# EAGLE library part K-HEADER-FEMALE-1X16- (library elpp-v1.1)
FEMALE HEADER
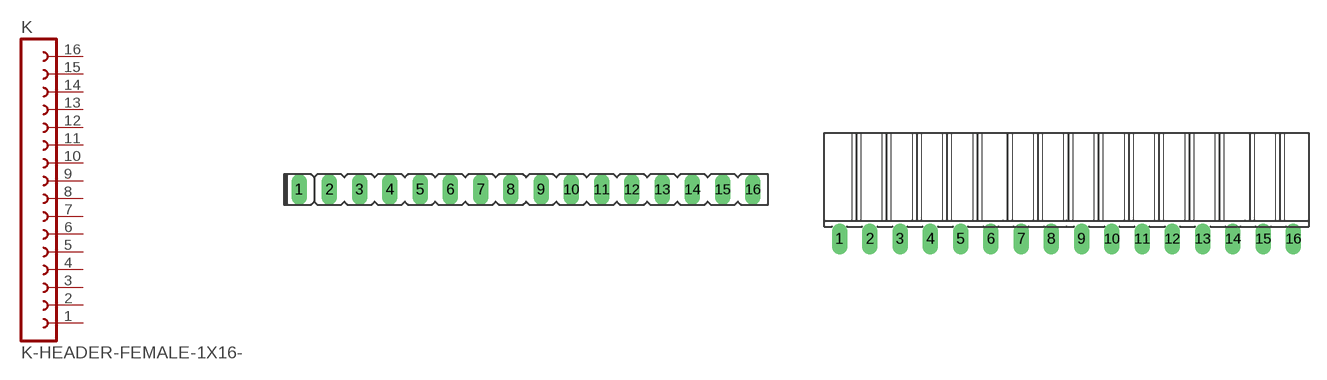
[diagram p28: symbol with the pads of EPP-SIL-F-16-WAY; footprints EPP-SIL-F-16-WAY, EPP-SIL-F-16-WAY-90DEG]

Designator prefix K

## K-HEADER-FEMALE-1X16-V (FARNELL: 9728856; RS: unknown)  [EPP-SIL-F-16-WAY]
1  1  pas
2  2  pas
3  3  pas
4  4  pas
5  5  pas
6  6  pas
7  7  pas
8  8  pas
9  9  pas
10  10  pas
11  11  pas
12  12  pas
13  13  pas
14  14  pas
15  15  pas
16  16  pas

## K-HEADER-FEMALE-1X16-H (FARNELL: 9728880; RS: unknown)  [EPP-SIL-F-16-WAY-90DEG]
Pads as for EPP-SIL-F-16-WAY

## Footprint EPP-SIL-F-16-WAY (pad centres in mm)
FEMALE HEADER, 1 row
drill 0.8 long: 1 -19.05,0; 2 -16.51,0; 3 -13.97,0; 4 -11.43,0; 5 -8.89,0; 6 -6.35,0; 7 -3.81,0; 8 -1.27,0; 9 1.27,0; 10 3.81,0; 11 6.35,0; 12 8.89,0; 13 11.43,0; 14 13.97,0; 15 16.51,0; 16 19.05,0

## Footprint EPP-SIL-F-16-WAY-90DEG (pad centres in mm)
FEMALE HEADER, 1 row, 90 degrees
drill 0.8 long: 1 -19.05,0; 2 -16.51,0; 3 -13.97,0; 4 -11.43,0; 5 -8.89,0; 6 -6.35,0; 7 -3.81,0; 8 -1.27,0; 9 1.27,0; 10 3.81,0; 11 6.35,0; 12 8.89,0; 13 11.43,0; 14 13.97,0; 15 16.51,0; 16 19.05,0